# Altium footprint library Nhu-Altium-Schematic-Lin.PcbLib: 59 footprints (part 2 of 4)
Each footprint in its own frame and in the unit in brackets; x right, y up, seen from the top. Pads: shape width x height; smd on the part's side, far side on the other; paste and mask are expansions set on the pad; w line width, h text height; cw(c..) or ccw(c..) is an arc to the next point about the centre after c.
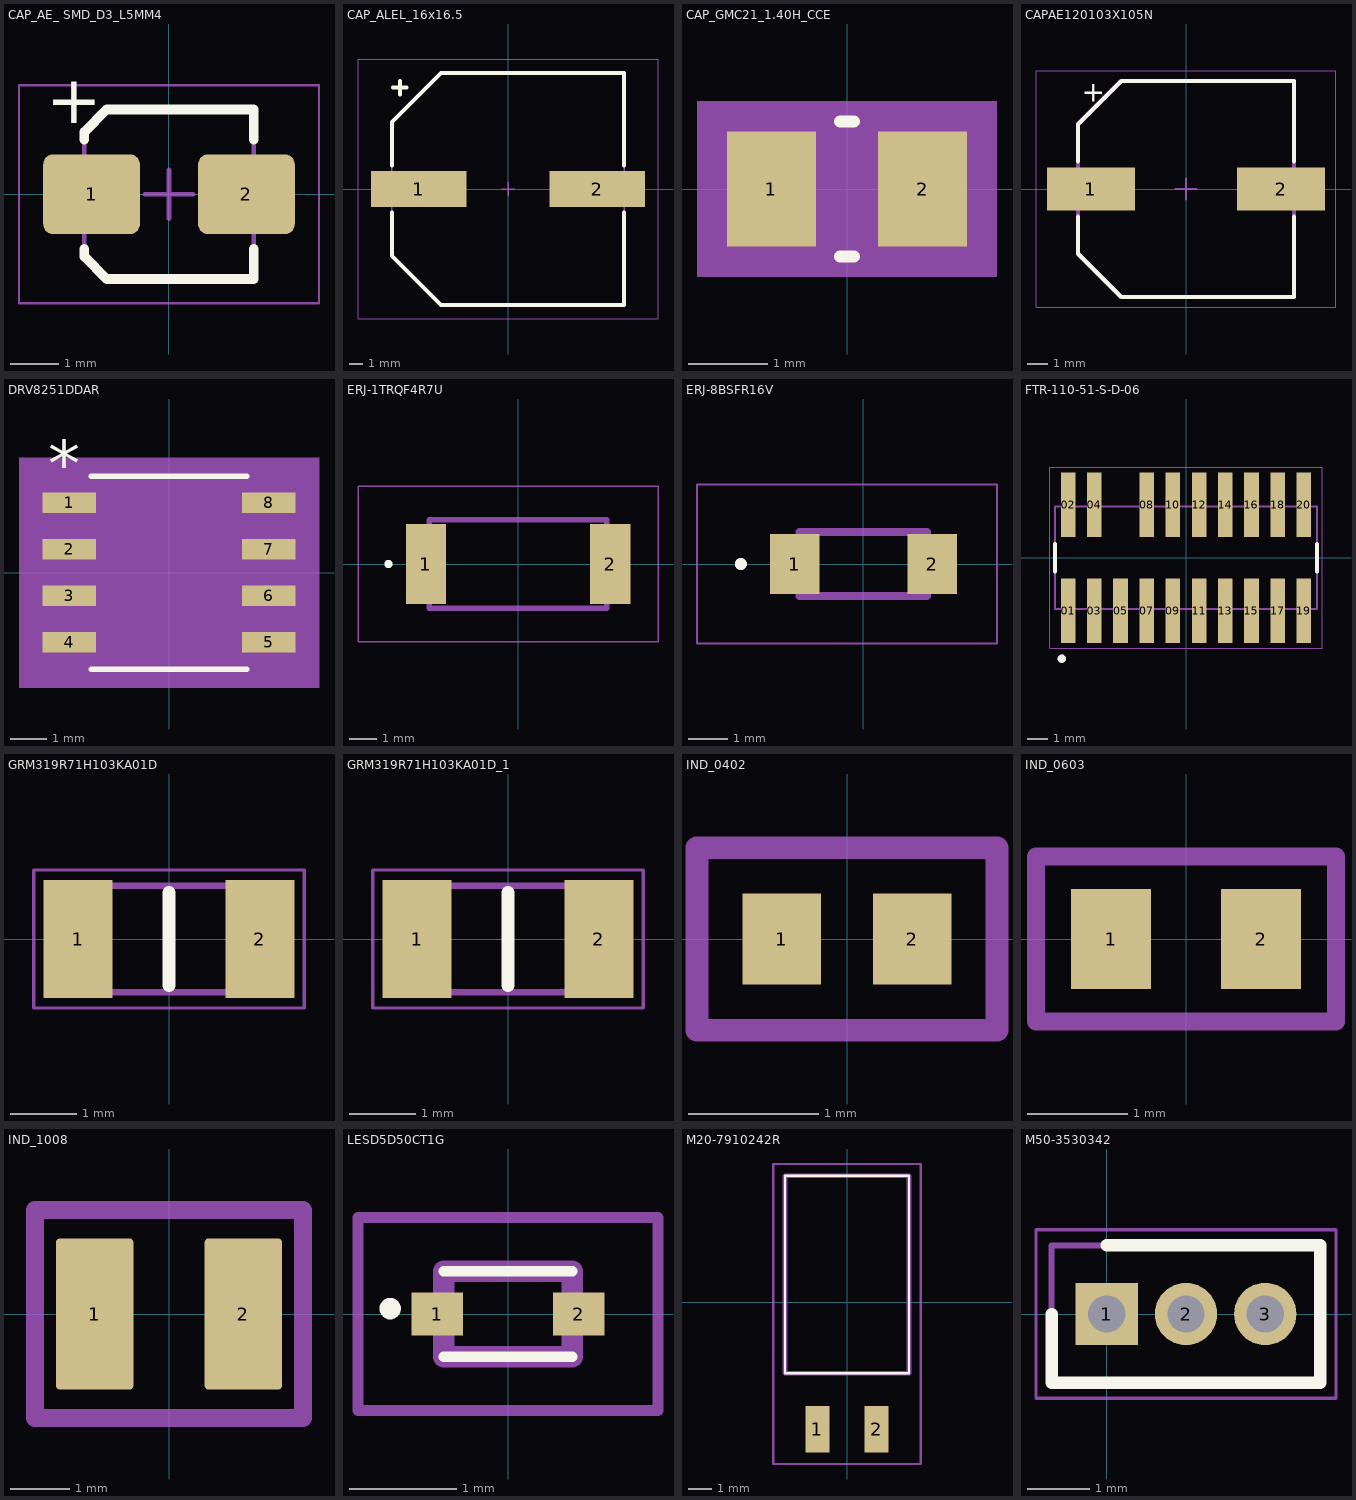
[diagram p1: the footprints below, top view; thin cyan lines are the x and y axes]

## CAP_AE_ SMD_D3_L5MM4 [mm] "Aluminum Electrolytic Capacitor, Body 3.30x3.30x5.50mm, IPC Medium Density"
height 5.5
pads (2):
  rrect25% 2x1.65 smd: 1(-1.6,0) 2(1.6,0)
Top Overlay:
  lines w0.2: -1.75,-1.125 -1.75,-1.288 -1.288,-1.75 1.75,-1.75 1.75,-1.125 ; -1.75,1.125 -1.75,1.288 -1.288,1.75 1.75,1.75 1.75,1.125
  text "+" at -2.533,1.467 h1
Mechanical 13:
  lines w0.1: -1.75,-1.288 -1.288,-1.75 1.75,-1.75 1.75,1.75 -1.288,1.75 -1.75,1.288 -1.75,-1.288
  text "'.Designator'" at -5.815,-0.9 h1
  text "+" at -2.483,1.508 h1
Mechanical 15:
  lines w0.05: -3.1,-2.25 -3.1,2.25 3.1,2.25 3.1,-2.25 -3.1,-2.25
  lines w0.1: -0.5,0 0.5,0 ; 0,-0.5 0,0.5
3D body "CAP_AE_ SMD_D3_L5MM4.step": height 5.5, standoff 0, extent -1.9,-1.75 1.9,1.75

## CAP_ALEL_16x16.5 [mm] "Aluminum Electrolytic Capacitor, Body 17.00x17.00x17.00mm, IPC Low Density"
height 17
pads (2):
  rect 7.05x2.65 smd: 1(-6.6,0) 2(6.6,0)
Top Overlay:
  lines w0.3: -8.6,-1.75 -8.6,-4.962 -4.962,-8.6 8.6,-8.6 8.6,-1.75 ; -8.6,1.75 -8.6,4.963 -4.962,8.6 8.6,8.6 8.6,1.75 ; -8.5,7.5 -7.5,7.5 ; -8,7 -8,8
Mechanical 13:
  lines w0.1: -8.6,-4.962 -8.6,4.963 -4.962,8.6 8.6,8.6 8.6,-8.6 -4.962,-8.6 -8.6,-4.962
  text "+" at -8.966,6.517 h2
  text "'.Designator'" at -5.815,-0.9 h1
Mechanical 15:
  lines w0.05: -11.1,-9.6 11.1,-9.6 11.1,9.6 -11.1,9.6 -11.1,-9.6
  lines w0.1: -0.5,0 0.5,0 ; 0,-0.5 0,0.5
3D body "CAPAE180170X170M.step": height 17, standoff 0, extent -9,-8.6 9,8.6

## CAP_GMC21_1.40H_CCE [mil]
pads (2):
  rect 44x57 smd paste+0 mask+0: 1(-37.5,0) 2(37.5,0)
Top Overlay:
  lines w6: -3.39,-33.5 3.39,-33.5 ; -3.39,33.5 3.39,33.5
Mechanical 5:
  region: 74.5,-43.5 -74.5,-43.5 -74.5,43.5 74.5,43.5
Mechanical 13:
  lines w1: -45.5,-28.5 -45.5,28.5 ; -45.5,-28.5 -15.5,-28.5 -15.5,28.5 -45.5,28.5 ; -45.5,-28.5 45.5,-28.5 ; -45.5,-28.5 -45.5,28.5 ; -45.5,28.5 45.5,28.5 ; 45.5,-28.5 15.5,-28.5 15.5,28.5 45.5,28.5 ; 45.5,-28.5 45.5,28.5 ; 45.5,-28.5 45.5,28.5
Mechanical 15:
  region: 69.5,-38.5 -69.5,-38.5 -69.5,38.5 69.5,38.5
  lines w6: -69.5,-38.5 -69.5,38.5 69.5,38.5 69.5,-38.5 -69.5,-38.5
3D body: height 10, standoff 0, extent 0,0 10,10
3D body "CAP_GMC21_140H_CCE.step": height 55, standoff 0, extent -45.51,-28.5 45.51,28.5

## CAPAE120103X105N [mm] "Aluminum Electrolytic Capacitor, Body 10.30x10.30x10.50mm, IPC Medium Density"
height 10.5
pads (2):
  rect 4.3x2.1 smd: 1(-4.625,0) 2(4.625,0)
Top Overlay:
  lines w0.2: -5.25,-1.35 -5.25,-3.15 -3.15,-5.25 5.25,-5.25 5.25,-1.35 ; -5.25,1.35 -5.25,3.15 -3.15,5.25 5.25,5.25 5.25,1.35
  text "+" at -5.083,4.25 h1
Mechanical 13:
  lines w0.2: -5.25,-3.15 -5.25,3.15 -3.15,5.25 5.25,5.25 5.25,-5.25 -3.15,-5.25 -5.25,-3.15
  text "+" at -5.083,4.25 h1
  text "'.Designator'" at -5.665,-0.417 h1
Mechanical 15:
  lines w0.05: -7.3,-5.75 7.3,-5.75 7.3,5.75 -7.3,5.75 -7.3,-5.75
  lines w0.1: -0.5,0 0.5,0 ; 0,-0.5 0,0.5
3D body "CAPAE120103X105N.step": height 10.5, standoff 0, extent -6,-5.25 6,5.25

## DRV8251DDAR [mil]
pads (8):
  rect 57.5x22 smd paste+0 mask+0: 1(-107.25,75) 2(-107.25,25) 3(-107.25,-25) 4(-107.25,-75) 5(107.25,-75) 6(107.25,-25) 7(107.25,25) 8(107.25,75)
Top Overlay:
  lines w6: -83.5,-103.5 83.5,-103.5 ; -83.5,103.5 83.5,103.5
  text "*" at -129.75,92 h50
Mechanical 5:
  region: 161,-123.5 -161,-123.5 -161,123.5 161,123.5
Mechanical 13:
  lines w0: -12,98.5 ccw(c0,98.5) 12,98.5
  lines w1: -122,-85 -122,-65 -78.5,-65 -78.5,-85 -122,-85 ; -122,-35 -122,-15 -78.5,-15 -78.5,-35 -122,-35 ; -122,15 -122,35 -78.5,35 -78.5,15 -122,15 ; -122,65 -122,85 -78.5,85 -78.5,65 -122,65 ; -78.5,-98.5 78.5,-98.5 78.5,98.5 -78.5,98.5 -78.5,-98.5 ; 78.5,-85 78.5,-65 122,-65 122,-85 78.5,-85 ; 78.5,-35 78.5,-15 122,-15 122,-35 78.5,-35 ; 78.5,15 78.5,35 122,35 122,15 78.5,15 ; 78.5,65 78.5,85 122,85 122,65 78.5,65
  text "*" at -76,45.5 h50
Mechanical 15:
  region: -88.5,-96 -146,-96 -146,96 -88.5,96 -88.5,108.5 88.5,108.5 88.5,96 146,96 146,-96 88.5,-96 88.5,-108.5 -88.5,-108.5
  lines w6: -146,-96 -146,96 -88.5,96 -88.5,108.5 88.5,108.5 88.5,96 146,96 146,-96 88.5,-96 88.5,-108.5 -88.5,-108.5 -88.5,-96 -146,-96
3D body "POWERPAD_DDA_TEX.step": height 67.09, standoff 0, extent -122.01,-98.5 122.01,98.5

## ERJ-1TRQF4R7U [mm]
pads (2):
  rect 1.45x2.9 smd: 1(-3.325,0) 2(3.325,0)
Top Overlay:
  circle w0.2: c-4.675,0 r0.05
Mechanical 13:
  lines w0.2: -3.2,-1.6 -3.2,1.6 3.2,1.6 3.2,-1.6 -3.2,-1.6
Mechanical 15:
  lines w0.05: -5.775,-2.8 -5.775,2.8 5.05,2.8 5.05,-2.8 -5.775,-2.8
3D body "ERJ-1TRQF4R7U.stp": height 0.6, standoff 0, extent -3.2,-1.6 3.2,1.6

## ERJ-8BSFR16V [mm]
pads (2):
  rect 1.25x1.5 smd: 1(-1.725,0) 2(1.725,0)
Top Overlay:
  circle w0.2: c-3.075,0 r0.05
Mechanical 13:
  lines w0.2: -1.6,-0.8 -1.6,0.8 1.6,0.8 1.6,-0.8 -1.6,-0.8
Mechanical 15:
  lines w0.05: -4.175,-2 -4.175,2 3.35,2 3.35,-2 -4.175,-2
3D body "ERJ-8BSFR16V.stp": height 0.6, standoff 0, extent -1.6,-0.8 1.6,0.8

## FTR-110-51-S-D-06 [mm]
pads (19):
  rect 0.711x3.125 smd: 01(-5.715,-2.578) 02(-5.715,2.578) 03(-4.445,-2.578) 04(-4.445,2.578) 05(-3.175,-2.578) 07(-1.905,-2.578) 08(-1.905,2.578) 09(-0.635,-2.578) 10(-0.635,2.578) 11(0.635,-2.578) 12(0.635,2.578) 13(1.905,-2.578) 14(1.905,2.578) 15(3.175,-2.578) 16(3.175,2.578) 17(4.445,-2.578) 18(4.445,2.578) 19(5.715,-2.578) 20(5.715,2.578)
Top Overlay:
  circle w0.2: c-6.025,-4.9 r0.1
  lines w0.2: -6.35,-0.665 -6.35,0.665 ; 6.35,-0.665 6.35,0.665
Mechanical 13:
  circle w0.2: c-6.025,-4.9 r0.1
  lines w0.1: -6.35,-2.49 6.35,-2.49 6.35,2.49 -6.35,2.49 -6.35,-2.49
Mechanical 15:
  lines w0.05: -6.6,-4.39 6.6,-4.39 6.6,4.39 -6.6,4.39 -6.6,-4.39
3D body "FTR-110-51-S-D-06.stp": height 8.65, standoff 0.01, extent -6.477,-3.708 6.223,3.81

## GRM319R71H103KA01D [mm]
pads (2):
  rect 1.04x1.78 smd: 1(-1.37,0) 2(1.37,0)
Top Overlay:
  lines w0.2: 0,-0.7 0,0.7
Mechanical 13:
  lines w0.1: -1.6,-0.8 1.6,-0.8 1.6,0.8 -1.6,0.8 -1.6,-0.8
Mechanical 15:
  lines w0.05: -2.04,-1.04 2.04,-1.04 2.04,1.04 -2.04,1.04 -2.04,-1.04
3D body "GRM319R71H103KA01D.stp": height 0.95, standoff 0, extent -1.6,-0.8 1.6,0.8

## GRM319R71H103KA01D_1 [mm]
pads (2):
  rect 1.04x1.78 smd: 1(-1.37,0) 2(1.37,0)
Top Overlay:
  lines w0.2: 0,-0.7 0,0.7
Mechanical 13:
  lines w0.1: -1.6,-0.8 -1.6,0.8 1.6,0.8 1.6,-0.8 -1.6,-0.8
Mechanical 15:
  lines w0.05: -2.04,-1.04 -2.04,1.04 2.04,1.04 2.04,-1.04 -2.04,-1.04
3D body "GRM319R71H103KA01D.stp": height 0.95, standoff 0, extent -1.6,-0.8 1.6,0.8

## IND_0402 [mm]
pads (2):
  rect 0.6x0.7 smd: 1(-0.5,0) 2(0.5,0)
Mechanical 13:
  lines w0.175: -1.15,-0.7 -1.15,0.7 1.15,0.7 1.15,-0.7 -1.15,-0.7
  text "'.Designator'" at -5.665,-0.417 h1
3D body "L0402.step": height 0.67, standoff 0.01, extent -0.56,-0.256 0.56,0.256

## IND_0603 [mm]
pads (2):
  rect 0.8x1 smd: 1(-0.75,0) 2(0.75,0)
Mechanical 13:
  lines w0.175: -1.5,-0.825 -1.5,0.825 1.5,0.825 1.5,-0.825 -1.5,-0.825
  text "'.Designator'" at -5.665,-0.417 h1
3D body "L0603.step": height 0.87, standoff 0.01, extent -0.81,-0.365 0.81,0.365

## IND_1008 [mm]
pads (2):
  rrect10% 1.3x2.54 smd: 1(-1.25,0) 2(1.25,0)
Mechanical 13:
  lines w0.3: -2.25,-1.75 -2.25,-0.25 -2.25,1.75 2.25,1.75 2.25,-1.75 -2.25,-1.75
  text "'.Designator'" at -5.84,-0.925 h1
3D body "L1008.stp": height 1.71, standoff -0.09, extent -1.3,-1.05 1.3,1.05

## LESD5D50CT1G [mm]
pads (2):
  rect 0.48x0.4 smd: 1(-0.66,0) 2(0.66,0)
Top Overlay:
  lines w0.1: -0.6,-0.4 0.6,-0.4 ; -0.6,0.4 0.6,0.4 ; -1.1,0 ccw(c-1.1,0.05) -1.1,0.1 ccw(c-1.1,0.05) -1.1,0
Mechanical 13:
  lines w0.2: -0.6,-0.4 -0.6,0.4 0.6,0.4 0.6,-0.4 -0.6,-0.4
Mechanical 15:
  lines w0.1: -1.4,-0.9 -1.4,0.9 1.4,0.9 1.4,-0.9 -1.4,-0.9
3D body "LESD5D5.0CT1G.stp": height 0.6, standoff 0, extent -0.8,-0.399 0.8,0.399

## M20-7910242R [mm]
pads (2):
  rect 1.02x2 smd: 1(-1.27,-5.45) 2(1.27,-5.45)
Top Overlay:
  lines w0.1: -2.665,-3.05 2.665,-3.05 2.665,5.45 -2.665,5.45 -2.665,-3.05
Mechanical 13:
  lines w0.2: -2.665,-3.05 2.665,-3.05 2.665,5.45 -2.665,5.45 -2.665,-3.05
Mechanical 15:
  lines w0.1: -3.165,-6.95 3.165,-6.95 3.165,5.95 -3.165,5.95 -3.165,-6.95
3D body "M20-7910242R--3DModel-STEP-56544.STEP": height 2.63, standoff -0.03, extent -2.665,-6.321 2.665,5.579

## M50-3530342 [mm]
pads (3):
  rect 1x1 hole 0.6: 1(0,0)
  round 1 hole 0.6: 2(1.27,0) 3(2.54,0)
Top Overlay:
  lines w0.2: -0.885,0 -0.885,-1.1 3.425,-1.1 3.425,1.1 0,1.1
Mechanical 13:
  lines w0.1: -0.885,-1.1 -0.885,1.1 3.425,1.1 3.425,-1.1 -0.885,-1.1
Mechanical 15:
  lines w0.05: -1.135,-1.35 -1.135,1.35 3.675,1.35 3.675,-1.35 -1.135,-1.35
3D body "M50-3530342.stp": height 4, standoff -2.3, extent -0.635,-1.05 3.175,1.05